# EAGLE library part TQFP100-DIP (library packages_ref)
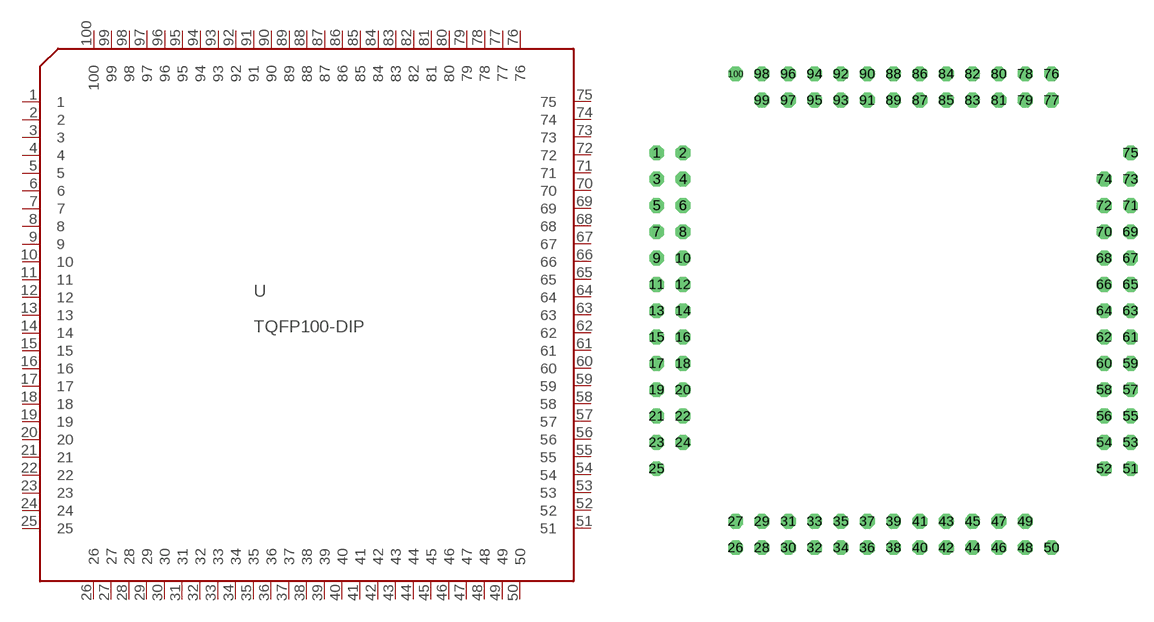
[diagram p2: symbol with the pads of TQFP100-DIP; footprint TQFP100-DIP]

Designator prefix -

## TQFP100-DIP  [TQFP100-DIP]
1  1
2  2
3  3
4  4
5  5
6  6
7  7
8  8
9  9
10  10
11  11
12  12
13  13
14  14
15  15
16  16
17  17
18  18
19  19
20  20
21  21
22  22
23  23
24  24
25  25
26  26
27  27
28  28
29  29
30  30
31  31
32  32
33  33
34  34
35  35
36  36
37  37
38  38
39  39
40  40
41  41
42  42
43  43
44  44
45  45
46  46
47  47
48  48
49  49
50  50
51  51
52  52
53  53
54  54
55  55
56  56
57  57
58  58
59  59
60  60
61  61
62  62
63  63
64  64
65  65
66  66
67  67
68  68
69  69
70  70
71  71
72  72
73  73
74  74
75  75
76  76
77  77
78  78
79  79
80  80
81  81
82  82
83  83
84  84
85  85
86  86
87  87
88  88
89  89
90  90
91  91
92  92
93  93
94  94
95  95
96  96
97  97
98  98
99  99
100  100

## Footprint TQFP100-DIP (pad centres in mm)
drill 0.6 pad 1.422 octagon: 1 -22.86,15.24; 2 -20.32,15.24; 3 -22.86,12.7; 4 -20.32,12.7; 5 -22.86,10.16; 6 -20.32,10.16; 7 -22.86,7.62; 8 -20.32,7.62; 9 -22.86,5.08; 10 -20.32,5.08; 11 -22.86,2.54; 12 -20.32,2.54; 13 -22.86,0; 14 -20.32,0; 15 -22.86,-2.54; 16 -20.32,-2.54; 17 -22.86,-5.08; 18 -20.32,-5.08; 19 -22.86,-7.62; 20 -20.32,-7.62; 21 -22.86,-10.16; 22 -20.32,-10.16; 23 -22.86,-12.7; 24 -20.32,-12.7; 25 -22.86,-15.24; 26 -15.24,-22.86; 27 -15.24,-20.32; 28 -12.7,-22.86; 29 -12.7,-20.32; 30 -10.16,-22.86; 31 -10.16,-20.32; 32 -7.62,-22.86; 33 -7.62,-20.32; 34 -5.08,-22.86; 35 -5.08,-20.32; 36 -2.54,-22.86; 37 -2.54,-20.32; 38 0,-22.86; 39 0,-20.32; 40 2.54,-22.86; 41 2.54,-20.32; 42 5.08,-22.86; 43 5.08,-20.32; 44 7.62,-22.86; 45 7.62,-20.32; 46 10.16,-22.86; 47 10.16,-20.32; 48 12.7,-22.86; 49 12.7,-20.32; 50 15.24,-22.86; 51 22.86,-15.24; 52 20.32,-15.24; 53 22.86,-12.7; 54 20.32,-12.7; 55 22.86,-10.16; 56 20.32,-10.16; 57 22.86,-7.62; 58 20.32,-7.62; 59 22.86,-5.08; 60 20.32,-5.08; 61 22.86,-2.54; 62 20.32,-2.54; 63 22.86,0; 64 20.32,0; 65 22.86,2.54; 66 20.32,2.54; 67 22.86,5.08; 68 20.32,5.08; 69 22.86,7.62; 70 20.32,7.62; 71 22.86,10.16; 72 20.32,10.16; 73 22.86,12.7; 74 20.32,12.7; 75 22.86,15.24; 76 15.24,22.86; 77 15.24,20.32; 78 12.7,22.86; 79 12.7,20.32; 80 10.16,22.86; 81 10.16,20.32; 82 7.62,22.86; 83 7.62,20.32; 84 5.08,22.86; 85 5.08,20.32; 86 2.54,22.86; 87 2.54,20.32; 88 0,22.86; 89 0,20.32; 90 -2.54,22.86; 91 -2.54,20.32; 92 -5.08,22.86; 93 -5.08,20.32; 94 -7.62,22.86; 95 -7.62,20.32; 96 -10.16,22.86; 97 -10.16,20.32; 98 -12.7,22.86; 99 -12.7,20.32; 100 -15.24,22.86